# Altium schematic symbol library HEART.SchLib: 12 symbols
Pins are listed as number, name and electrical type; pins without a type are passive.

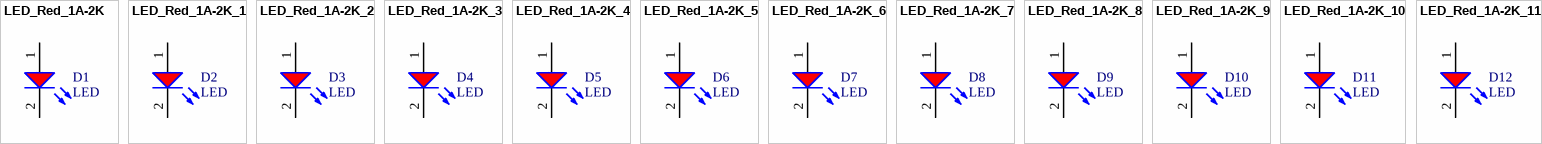
[diagram p0: symbols LED_Red_1A-2K to LED_Red_1A-2K_11]

## LED_Red_1A-2K
designator D1, comment LED
NexarPartId: 29717803; Luminous Intensity: 35mcd; Forward Current: 100mA; Wavelength: 630nm; Max Reverse Voltage (DC): 5V; Peak Wavelength: 650nm; Lens Size: 3mm; Dominant Wavelength: 640nm; Test Current: 20mA; Viewing Angle: 60°; Color: Red; Forward Voltage: 2.2V; Lens Style: Circular, Diffused, Round; Height: 5.3mm; RoHS: Compliant; Width: 3mm; REACH SVHC: Unknown; Max Operating Temperature: 85°C; Mount: Through Hole; Min Operating Temperature: -40°C; Case/Package: Radial; Packaging: Bulk; Length: 3mm
footprint WL-TMRC_D3.95H5.3 (Led, Green, T-1 (3Mm), 570 Nm, 2.1 V, 30 Ma, 120 Mcd Rohs Compliant: Yes)
simulation model diode (Model Description)
pins: 1 A, 2 K

## LED_Red_1A-2K_1
designator D2, comment LED
NexarPartId: 29717803; Luminous Intensity: 35mcd; Forward Current: 100mA; Wavelength: 630nm; Max Reverse Voltage (DC): 5V; Peak Wavelength: 650nm; Lens Size: 3mm; Dominant Wavelength: 640nm; Test Current: 20mA; Viewing Angle: 60°; Color: Red; Forward Voltage: 2.2V; Lens Style: Circular, Diffused, Round; Height: 5.3mm; RoHS: Compliant; Width: 3mm; REACH SVHC: Unknown; Max Operating Temperature: 85°C; Mount: Through Hole; Min Operating Temperature: -40°C; Case/Package: Radial; Packaging: Bulk; Length: 3mm
footprint WL-TMRC_D3.95H5.3 (Led, Green, T-1 (3Mm), 570 Nm, 2.1 V, 30 Ma, 120 Mcd Rohs Compliant: Yes)
simulation model diode
pins: 1 A, 2 K

## LED_Red_1A-2K_2
designator D3, comment LED
NexarPartId: 29717803; Luminous Intensity: 35mcd; Forward Current: 100mA; Wavelength: 630nm; Max Reverse Voltage (DC): 5V; Peak Wavelength: 650nm; Lens Size: 3mm; Dominant Wavelength: 640nm; Test Current: 20mA; Viewing Angle: 60°; Color: Red; Forward Voltage: 2.2V; Lens Style: Circular, Diffused, Round; Height: 5.3mm; RoHS: Compliant; Width: 3mm; REACH SVHC: Unknown; Max Operating Temperature: 85°C; Mount: Through Hole; Min Operating Temperature: -40°C; Case/Package: Radial; Packaging: Bulk; Length: 3mm
footprint WL-TMRC_D3.95H5.3 (Led, Green, T-1 (3Mm), 570 Nm, 2.1 V, 30 Ma, 120 Mcd Rohs Compliant: Yes)
simulation model diode
pins: 1 A, 2 K

## LED_Red_1A-2K_3
designator D4, comment LED
NexarPartId: 29717803; Luminous Intensity: 35mcd; Forward Current: 100mA; Wavelength: 630nm; Max Reverse Voltage (DC): 5V; Peak Wavelength: 650nm; Lens Size: 3mm; Dominant Wavelength: 640nm; Test Current: 20mA; Viewing Angle: 60°; Color: Red; Forward Voltage: 2.2V; Lens Style: Circular, Diffused, Round; Height: 5.3mm; RoHS: Compliant; Width: 3mm; REACH SVHC: Unknown; Max Operating Temperature: 85°C; Mount: Through Hole; Min Operating Temperature: -40°C; Case/Package: Radial; Packaging: Bulk; Length: 3mm
footprint WL-TMRC_D3.95H5.3 (Led, Green, T-1 (3Mm), 570 Nm, 2.1 V, 30 Ma, 120 Mcd Rohs Compliant: Yes)
simulation model diode
pins: 1 A, 2 K

## LED_Red_1A-2K_4
designator D5, comment LED
NexarPartId: 29717803; Luminous Intensity: 35mcd; Forward Current: 100mA; Wavelength: 630nm; Max Reverse Voltage (DC): 5V; Peak Wavelength: 650nm; Lens Size: 3mm; Dominant Wavelength: 640nm; Test Current: 20mA; Viewing Angle: 60°; Color: Red; Forward Voltage: 2.2V; Lens Style: Circular, Diffused, Round; Height: 5.3mm; RoHS: Compliant; Width: 3mm; REACH SVHC: Unknown; Max Operating Temperature: 85°C; Mount: Through Hole; Min Operating Temperature: -40°C; Case/Package: Radial; Packaging: Bulk; Length: 3mm
footprint WL-TMRC_D3.95H5.3 (Led, Green, T-1 (3Mm), 570 Nm, 2.1 V, 30 Ma, 120 Mcd Rohs Compliant: Yes)
simulation model diode
pins: 1 A, 2 K

## LED_Red_1A-2K_5
designator D6, comment LED
NexarPartId: 29717803; Luminous Intensity: 35mcd; Forward Current: 100mA; Wavelength: 630nm; Max Reverse Voltage (DC): 5V; Peak Wavelength: 650nm; Lens Size: 3mm; Dominant Wavelength: 640nm; Test Current: 20mA; Viewing Angle: 60°; Color: Red; Forward Voltage: 2.2V; Lens Style: Circular, Diffused, Round; Height: 5.3mm; RoHS: Compliant; Width: 3mm; REACH SVHC: Unknown; Max Operating Temperature: 85°C; Mount: Through Hole; Min Operating Temperature: -40°C; Case/Package: Radial; Packaging: Bulk; Length: 3mm
footprint WL-TMRC_D3.95H5.3 (Led, Green, T-1 (3Mm), 570 Nm, 2.1 V, 30 Ma, 120 Mcd Rohs Compliant: Yes)
simulation model diode
pins: 1 A, 2 K

## LED_Red_1A-2K_6
designator D7, comment LED
NexarPartId: 29717803; Luminous Intensity: 35mcd; Forward Current: 100mA; Wavelength: 630nm; Max Reverse Voltage (DC): 5V; Peak Wavelength: 650nm; Lens Size: 3mm; Dominant Wavelength: 640nm; Test Current: 20mA; Viewing Angle: 60°; Color: Red; Forward Voltage: 2.2V; Lens Style: Circular, Diffused, Round; Height: 5.3mm; RoHS: Compliant; Width: 3mm; REACH SVHC: Unknown; Max Operating Temperature: 85°C; Mount: Through Hole; Min Operating Temperature: -40°C; Case/Package: Radial; Packaging: Bulk; Length: 3mm
footprint WL-TMRC_D3.95H5.3 (Led, Green, T-1 (3Mm), 570 Nm, 2.1 V, 30 Ma, 120 Mcd Rohs Compliant: Yes)
simulation model diode
pins: 1 A, 2 K

## LED_Red_1A-2K_7
designator D8, comment LED
NexarPartId: 29717803; Luminous Intensity: 35mcd; Forward Current: 100mA; Wavelength: 630nm; Max Reverse Voltage (DC): 5V; Peak Wavelength: 650nm; Lens Size: 3mm; Dominant Wavelength: 640nm; Test Current: 20mA; Viewing Angle: 60°; Color: Red; Forward Voltage: 2.2V; Lens Style: Circular, Diffused, Round; Height: 5.3mm; RoHS: Compliant; Width: 3mm; REACH SVHC: Unknown; Max Operating Temperature: 85°C; Mount: Through Hole; Min Operating Temperature: -40°C; Case/Package: Radial; Packaging: Bulk; Length: 3mm
footprint WL-TMRC_D3.95H5.3 (Led, Green, T-1 (3Mm), 570 Nm, 2.1 V, 30 Ma, 120 Mcd Rohs Compliant: Yes)
simulation model diode
pins: 1 A, 2 K

## LED_Red_1A-2K_8
designator D9, comment LED
NexarPartId: 29717803; Luminous Intensity: 35mcd; Forward Current: 100mA; Wavelength: 630nm; Max Reverse Voltage (DC): 5V; Peak Wavelength: 650nm; Lens Size: 3mm; Dominant Wavelength: 640nm; Test Current: 20mA; Viewing Angle: 60°; Color: Red; Forward Voltage: 2.2V; Lens Style: Circular, Diffused, Round; Height: 5.3mm; RoHS: Compliant; Width: 3mm; REACH SVHC: Unknown; Max Operating Temperature: 85°C; Mount: Through Hole; Min Operating Temperature: -40°C; Case/Package: Radial; Packaging: Bulk; Length: 3mm
footprint WL-TMRC_D3.95H5.3 (Led, Green, T-1 (3Mm), 570 Nm, 2.1 V, 30 Ma, 120 Mcd Rohs Compliant: Yes)
simulation model diode
pins: 1 A, 2 K

## LED_Red_1A-2K_9
designator D10, comment LED
NexarPartId: 29717803; Luminous Intensity: 35mcd; Forward Current: 100mA; Wavelength: 630nm; Max Reverse Voltage (DC): 5V; Peak Wavelength: 650nm; Lens Size: 3mm; Dominant Wavelength: 640nm; Test Current: 20mA; Viewing Angle: 60°; Color: Red; Forward Voltage: 2.2V; Lens Style: Circular, Diffused, Round; Height: 5.3mm; RoHS: Compliant; Width: 3mm; REACH SVHC: Unknown; Max Operating Temperature: 85°C; Mount: Through Hole; Min Operating Temperature: -40°C; Case/Package: Radial; Packaging: Bulk; Length: 3mm
footprint WL-TMRC_D3.95H5.3 (Led, Green, T-1 (3Mm), 570 Nm, 2.1 V, 30 Ma, 120 Mcd Rohs Compliant: Yes)
simulation model diode
pins: 1 A, 2 K

## LED_Red_1A-2K_10
designator D11, comment LED
NexarPartId: 29717803; Luminous Intensity: 35mcd; Forward Current: 100mA; Wavelength: 630nm; Max Reverse Voltage (DC): 5V; Peak Wavelength: 650nm; Lens Size: 3mm; Dominant Wavelength: 640nm; Test Current: 20mA; Viewing Angle: 60°; Color: Red; Forward Voltage: 2.2V; Lens Style: Circular, Diffused, Round; Height: 5.3mm; RoHS: Compliant; Width: 3mm; REACH SVHC: Unknown; Max Operating Temperature: 85°C; Mount: Through Hole; Min Operating Temperature: -40°C; Case/Package: Radial; Packaging: Bulk; Length: 3mm
footprint WL-TMRC_D3.95H5.3 (Led, Green, T-1 (3Mm), 570 Nm, 2.1 V, 30 Ma, 120 Mcd Rohs Compliant: Yes)
simulation model diode
pins: 1 A, 2 K

## LED_Red_1A-2K_11
designator D12, comment LED
NexarPartId: 29717803; Luminous Intensity: 35mcd; Forward Current: 100mA; Wavelength: 630nm; Max Reverse Voltage (DC): 5V; Peak Wavelength: 650nm; Lens Size: 3mm; Dominant Wavelength: 640nm; Test Current: 20mA; Viewing Angle: 60°; Color: Red; Forward Voltage: 2.2V; Lens Style: Circular, Diffused, Round; Height: 5.3mm; RoHS: Compliant; Width: 3mm; REACH SVHC: Unknown; Max Operating Temperature: 85°C; Mount: Through Hole; Min Operating Temperature: -40°C; Case/Package: Radial; Packaging: Bulk; Length: 3mm
footprint WL-TMRC_D3.95H5.3 (Led, Green, T-1 (3Mm), 570 Nm, 2.1 V, 30 Ma, 120 Mcd Rohs Compliant: Yes)
simulation model diode
pins: 1 A, 2 K